# EAGLE library part LT8705 (library DSDEagleLibrary)
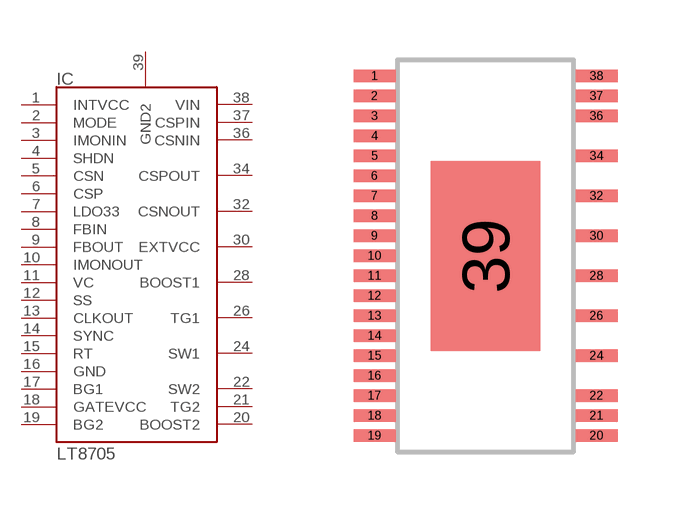
[diagram p13: symbol with the pads of LT8705; footprint LT8705]

Designator prefix IC

## LT8705  [LT8705]
1  INTVCC
2  MODE
3  IMONIN
4  SHDN
5  CSN
6  CSP
7  LDO33
8  FBIN
9  FBOUT
10  IMONOUT
11  VC
12  SS
13  CLKOUT
14  SYNC
15  RT
16  GND
17  BG1
18  GATEVCC
19  BG2
20  BOOST2
21  TG2
22  SW2
24  SW1
26  TG1
28  BOOST1
30  EXTVCC
32  CSNOUT
34  CSPOUT
36  CSNIN
37  CSPIN
38  VIN
39  GND2

## Footprint LT8705 (pad centres in mm)
smd 1.05 x 0.315: 1 -2.775,4.5; 2 -2.775,4; 3 -2.775,3.5; 4 -2.775,3; 5 -2.775,2.5; 6 -2.775,2; 7 -2.775,1.5; 8 -2.775,1; 9 -2.775,0.5; 10 -2.775,0; 11 -2.775,-0.5; 12 -2.775,-1; 13 -2.775,-1.5; 14 -2.775,-2; 15 -2.775,-2.5; 16 -2.775,-3; 17 -2.775,-3.5; 18 -2.775,-4; 19 -2.775,-4.5; 20 2.775,-4.5; 21 2.775,-4; 22 2.775,-3.5; 24 2.775,-2.5; 26 2.775,-1.5; 28 2.775,-0.5; 30 2.775,0.5; 32 2.775,1.5; 34 2.775,2.5; 36 2.775,3.5; 37 2.775,4; 38 2.775,4.5
smd 2.74 x 4.75: 39 0,0